# EAGLE library part CONN_ESP01 (library DSPR)
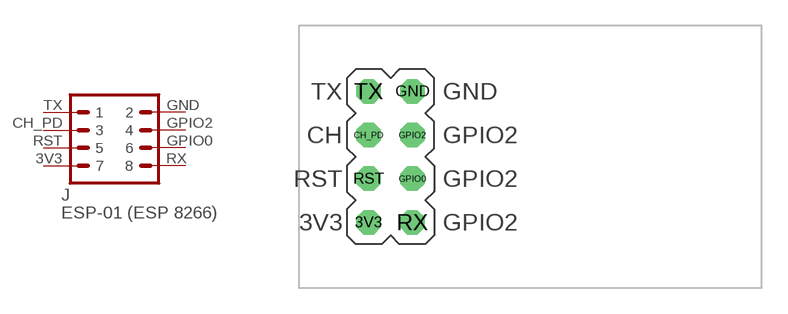
[diagram p4: symbol with the pads of CONN_ESP01_MODULE; footprint CONN_ESP01_MODULE]

Designator prefix J

## CONN_ESP01  [CONN_ESP01_MODULE]
3V3  7  pas
CH_PD  3  pas
GND  2  pas
GPIO0  6  pas
GPIO2  4  pas
RST  5  pas
RX  8  pas
TX  1  pas

## Footprint CONN_ESP01_MODULE (pad centres in mm)
drill 0.813 pad 1.422 octagon: 3V3 -1.27,-3.81; CH_PD -1.27,1.27; GND 1.27,3.81; GPIO0 1.27,-1.27; GPIO2 1.27,1.27; RST -1.27,-1.27; RX 1.27,-3.81; TX -1.27,3.81